# EAGLE library part SOLARCOMPONENTS_CSD16406Q3 (library SolarPowerBoard)
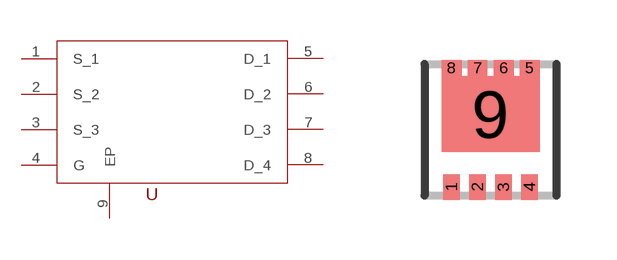
[diagram p4: symbol with the pads of SOLARCOMPONENTS_CSD16327; footprint SOLARCOMPONENTS_CSD16327]

Designator prefix -

## SOLARCOMPONENTS_CSD16406Q3  [SOLARCOMPONENTS_CSD16327]
1  S_1
2  S_2
3  S_3
4  G
5  D_1
6  D_2
7  D_3
8  D_4
9  EP

## Footprint SOLARCOMPONENTS_CSD16327 (pad centres in mm)
CSD16327
smd 0.42 x 0.63: 1 -0.975,-1.435; 2 -0.325,-1.435; 3 0.325,-1.435; 4 0.975,-1.435
smd 0.5 x 0.41: 5 0.975,1.545; 6 0.325,1.545; 7 -0.325,1.545; 8 -0.975,1.545
smd 2.45 x 1.9: 9 0,0.39